# Altium schematic symbol library USB4105-GF-A.SCHLIB: 1 symbol
Pins are listed as number, name and electrical type; pins without a type are passive.

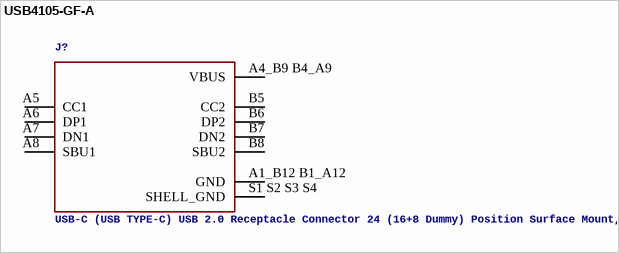
[diagram p0: symbol USB4105-GF-A]

## USB4105-GF-A
designator J?, comment USB-C (USB TYPE-C) USB 2.0 Receptacle Connector 24 (16+8 Dummy) Position Surface Mount, Right Angle; Through Hole  Check prices
GateName_1: G$1; SymbolName_1: USB4105-GF-A; MF: GCT; LibraryName: USB4105-GF-A; DeviceSetName: USB4105-GF-A; Package: None; Description: USB-C (USB TYPE-C) USB 2.0 Receptacle Connector 24 (16+8 Dummy) Position Surface Mount, Right Angle; Through Hole; Price: None; MP: USB4105-GF-A; Availability: In Stock
footprint GCT_USB4105-GF-A
pins: A1_B12 B1_A12 GND (power), A4_B9 B4_A9 VBUS (power), A5 CC1, A6 DP1, A7 DN1, A8 SBU1, B5 CC2, B6 DP2, B7 DN2, B8 SBU2, S1 S2 S3 S4 SHELL_GND (power)